# Altium footprint library Fomu-Programmer.PcbLib: 10 footprints
Each footprint in its own frame and in the unit in brackets; x right, y up, seen from the top. Pads: shape width x height; smd on the part's side, far side on the other; paste and mask are expansions set on the pad; w line width, h text height; cw(c..) or ccw(c..) is an arc to the next point about the centre after c.
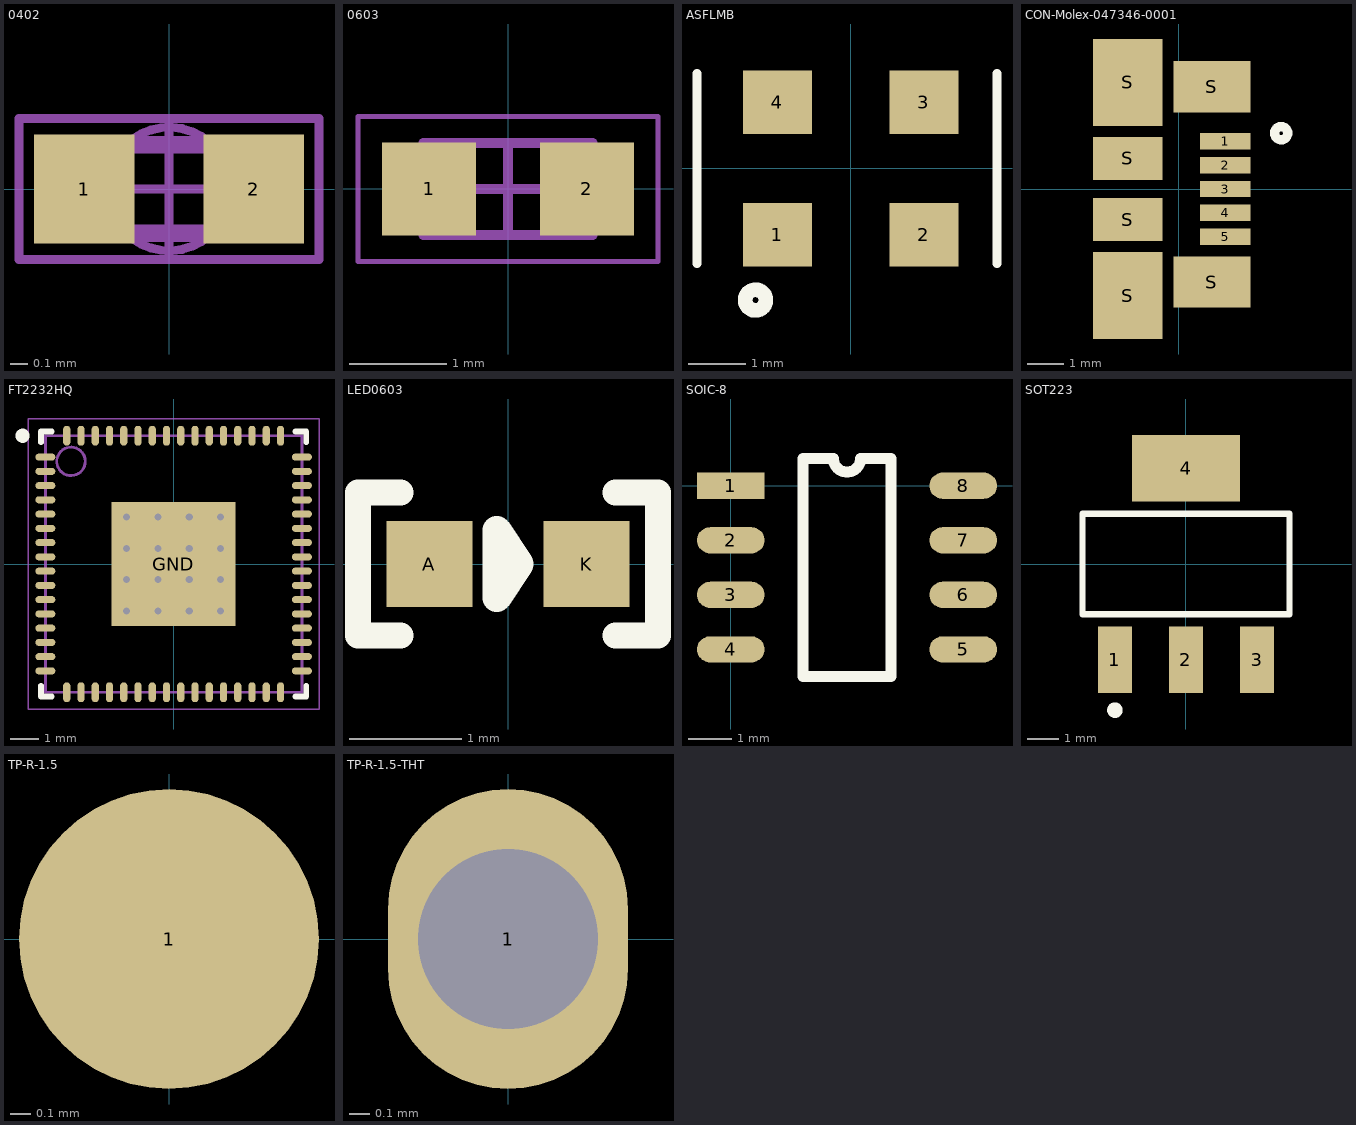
[diagram p0: the footprints below, top view; thin cyan lines are the x and y axes]

## 0402 [mm]
height 0.35
pads (2):
  rect 0.57x0.62 smd: 1(-0.48,0) 2(0.48,0)
Mechanical 3:
  circle w0.05: c0,0 r0.35
  lines w0.05: -0.5,0 0.5,0 ; 0,-0.4 0,0.4 ; -0.85,-0.4 -0.85,0.4 0.85,0.4 0.85,-0.4 -0.85,-0.4
Mechanical 13:
  lines w0.1: -0.5,-0.25 -0.5,0.25 0.5,0.25 0.5,-0.25 -0.5,-0.25
3D body: height 0.35, standoff 0, extent -0.472,-0.25 0.528,0.25

## 0603 [mm] "Chip Inductor Ferrite Bead 0603"
height 0.6
pads (2):
  rect 0.97x0.96 smd: 1(-0.815,0) 2(0.815,0)
Mechanical 13:
  lines w0.1: -0.875,-0.475 -0.875,0.475 0.875,0.475 0.875,-0.475 -0.875,-0.475
Mechanical 15:
  lines w0.05: -1.55,-0.75 -1.55,0.75 1.55,0.75 1.55,-0.75 -1.55,-0.75
  lines w0.1: -0.475,0 0.475,0 ; 0,-0.475 0,0.475
3D body: height 0.6, standoff 0, extent -0.475,-0.475 0.475,0.475
3D body: height 0.6, standoff 0, extent -0.875,-0.475 -0.475,0.475
3D body: height 0.6, standoff 0, extent 0.475,-0.475 0.875,0.475

## ASFLMB [mm]
pads (4):
  rect 1.2x1.1 smd: 1(-1.27,-1.15) 2(1.27,-1.15) 3(1.27,1.15) 4(-1.27,1.15)
Top Overlay:
  circle w0.254: c-1.651,-2.286 r0.18
  lines w0.152: -2.667,-1.651 -2.667,1.651 ; 2.54,-1.651 2.54,1.651
3D body: height 0.85, standoff 0.01, extent -2.54,-1.651 2.54,1.651

## CON-Molex-047346-0001 [mm]
pads (11):
  rect 1.38x0.45 smd: 1(1.263,1.3) 2(1.263,0.65) 3(1.263,0) 4(1.263,-0.65) 5(1.263,-1.3)
  rect 1.9x2.37 smd: S(-1.397,-2.91) S(-1.397,2.91)
  rect 1.9x1.175 smd: S(-1.397,-0.837) S(-1.397,0.837)
  rect 2.1x1.4 smd: S(0.903,-2.54) S(0.903,2.794)
Top Overlay:
  circle w0.254: c2.794,1.524 r0.18
3D body: height 2.71, standoff -0.23, extent -3.796,-3.99 1.634,3.99

## FT2232HQ [mm] "QFN, 64-Leads, Body 9,00x9,00mm, Pitch 0,50mm, Thermal Pad 4,35x4,35mm, IPC Medium Density"
height 0.9
pads (65):
  oval 0.7x0.25 smd: 2(-4.5,3.25) 3(-4.5,2.75) 4(-4.5,2.25) 6(-4.5,1.25) 7(-4.5,0.75) 8(-4.5,0.25) 9(-4.5,-0.25) 10(-4.5,-0.75) 13(-4.5,-2.25) 14(-4.5,-2.75) 16(-4.5,-3.75) 33(4.5,-3.75) 34(4.5,-3.25) 36(4.5,-2.25) 38(4.5,-1.25) 39(4.5,-0.75) 40(4.5,-0.25) 41(4.5,0.25) 43(4.5,1.25) 44(4.5,1.75) 45(4.5,2.25) 46(4.5,2.75) 48(4.5,3.75) GND(-4.5,-3.25) GND(-4.5,-1.25) GND(-4.5,1.75) GND(-4.5,3.75) GND(4.5,-2.75) GND(4.5,3.25) VCCIO(4.5,0.75) VCORE(-4.5,-1.75) VCORE(4.5,-1.75)
  oval 0.25x0.7 smd: 17(-3.75,-4.5) 18(-3.25,-4.5) 19(-2.75,-4.5) 21(-1.75,-4.5) 22(-1.25,-4.5) 23(-0.75,-4.5) 24(-0.25,-4.5) 26(0.75,-4.5) 27(1.25,-4.5) 28(1.75,-4.5) 29(2.25,-4.5) 30(2.75,-4.5) 32(3.75,-4.5) 49(3.75,4.5) 50(3.25,4.5) 52(2.25,4.5) 53(1.75,4.5) 54(1.25,4.5) 55(0.75,4.5) 57(-0.25,4.5) 58(-0.75,4.5) 59(-1.25,4.5) 60(-1.75,4.5) 61(-2.25,4.5) 62(-2.75,4.5) 63(-3.25,4.5) GND(0.25,-4.5) GND(2.75,4.5) VCCIO(-2.25,-4.5) VCCIO(0.25,4.5) VCCIO(3.25,-4.5) VCORE(-3.75,4.5)
  rect 4.35x4.35 smd: GND(0,0)
via 1.65,-1.65 diameter 0.6 hole 0.25
via 0.55,-1.65 diameter 0.6 hole 0.25
via -0.55,-1.65 diameter 0.6 hole 0.25
via -1.65,-1.65 diameter 0.6 hole 0.25
via 1.65,-0.55 diameter 0.6 hole 0.25
via 0.55,-0.55 diameter 0.6 hole 0.25
via -0.55,-0.55 diameter 0.6 hole 0.25
via -1.65,-0.55 diameter 0.6 hole 0.25
via 1.65,0.55 diameter 0.6 hole 0.25
via 0.55,0.55 diameter 0.6 hole 0.25
via -0.55,0.55 diameter 0.6 hole 0.25
via -1.65,0.55 diameter 0.6 hole 0.25
via 1.65,1.65 diameter 0.6 hole 0.25
via 0.55,1.65 diameter 0.6 hole 0.25
via -0.55,1.65 diameter 0.6 hole 0.25
via -1.65,1.65 diameter 0.6 hole 0.25
Top Overlay:
  circle w0.25: c-5.3,4.5 r0.125
  lines w0.2: -4.65,-4.275 -4.65,-4.65 -4.275,-4.65 ; -4.65,4.275 -4.65,4.65 -4.275,4.65 ; 4.275,-4.65 4.65,-4.65 4.65,-4.275 ; 4.275,4.65 4.65,4.65 4.65,4.275
Mechanical 13:
  circle w0.1: c-3.6,3.6 r0.5
  lines w0.1: -4.5,-4.5 4.5,-4.5 4.5,4.5 -4.5,4.5 -4.5,-4.5
Mechanical 15:
  lines w0.05: -5.1,-5.1 5.1,-5.1 5.1,5.1 -5.1,5.1 -5.1,-5.1
  lines w0.1: -0.5,0 0.5,0 ; 0,-0.5 0,0.5
3D body: height 0.9, standoff 0, extent -4.49,-4.53 4.55,4.51

## LED0603 [mil]
pads (2):
  rect 30x30 smd: A(-27.5,0) K(27.5,0)
Top Overlay:
  lines w9: -37.5,-25 -52.5,-25 -52.5,25 -37.5,25 ; 37.5,-25 52.5,-25 52.5,25 37.5,25
  lines w10: -3.88,-11.81 -3.88,11.81 4,0 -3.88,-11.81
3D body: height 43.31, standoff 0, extent -32.82,-15.75 30.97,15.75

## SOIC-8 [mil]
pads (8):
  rect 62x24 smd: 1(0,0)
  oval 62x24 smd: 2(0,-50) 3(0,-100) 4(0,-150) 5(213,-150) 6(213,-100) 7(213,-50) 8(213,0)
Top Overlay:
  lines w10: 66,-175 66,25 94,25 ccw(c106.5,25) 119,25 147,25 147,-175 66,-175
3D body: height 68.7, standoff -0.31, extent -17.03,-173.43 227.04,23.42

## SOT223 [mm] "SOT-223/SC-73; 4 Leads; Body 6.7 x 7.3 mm, inc. leads (LxW max)"
height 1.8
pads (4):
  rect 1.1x2.15 smd: 1(-2.3,-3.1) 2(0,-3.1) 3(2.3,-3.1)
  rect 3.5x2.15 smd: 4(0,3.1)
Top Overlay:
  circle w0.25: c-2.3,-4.725 r0.125
  lines w0.2: -3.35,-1.625 3.35,-1.625 3.35,1.625 -3.35,1.625 -3.35,-1.625
3D body: height 1.61, standoff -0.07, extent -3.25,-3.48 3.25,3.48

## TP-R-1.5 [mm]
pads (1):
  round 1.5 smd paste-0.75: 1(0,0)

## TP-R-1.5-THT [mm]
pads (1):
  oval 1.2x1.5 hole 0.9 paste-0.75: 1(0,0)